# Altium footprint library Buck_Library.PcbLib: 15 footprints
Each footprint in its own frame and in the unit in brackets; x right, y up, seen from the top. Pads: shape width x height; smd on the part's side, far side on the other; paste and mask are expansions set on the pad; w line width, h text height; cw(c..) or ccw(c..) is an arc to the next point about the centre after c.
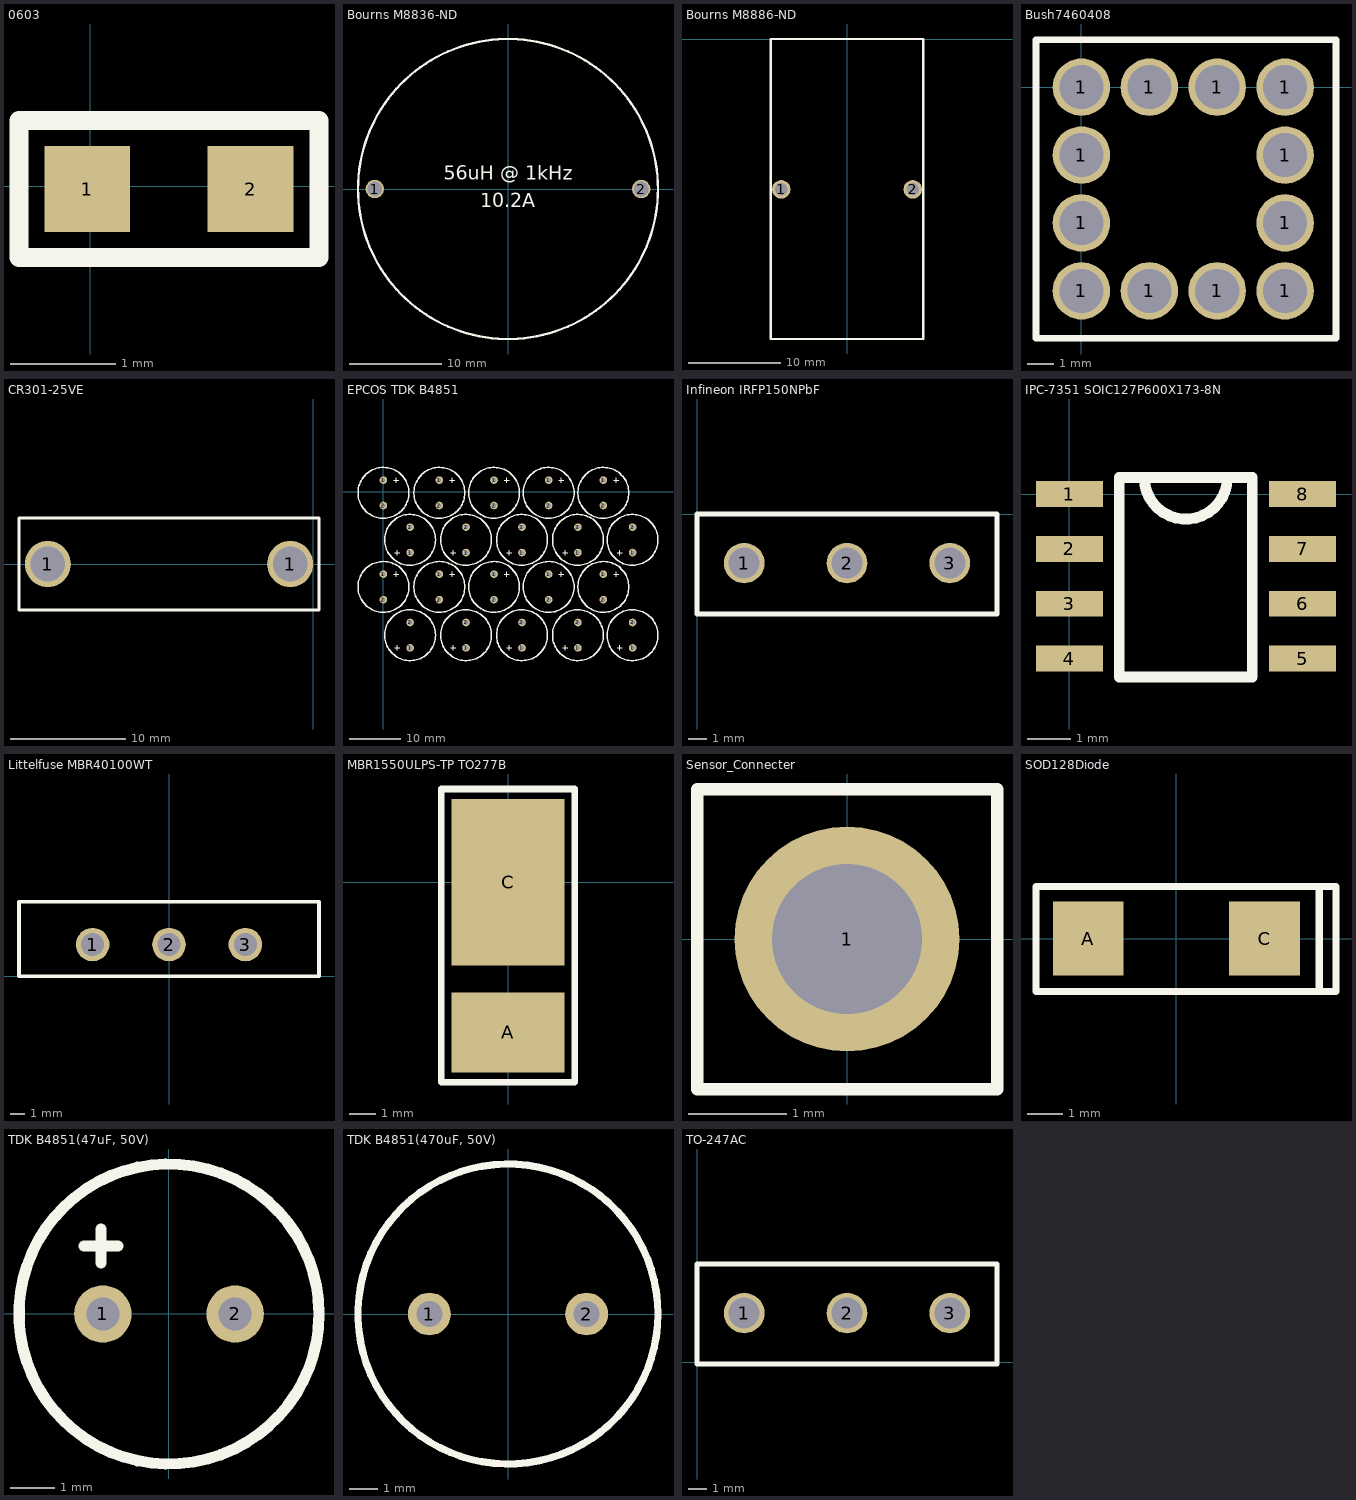
[diagram p0: the footprints below, top view; thin cyan lines are the x and y axes]

## 0603 [mil]
pads (2):
  rect 32x32 smd: 1(-0.98,-0.98) 2(60.02,-0.98)
Top Overlay:
  lines w7: -26.57,-26.57 -26.57,24.61 85.63,24.61 85.63,-26.57 -26.57,-26.57

## Bourns M8836-ND [mm]
pads (2):
  round 2 hole 1.6: 1(-14.478,0) 2(14.478,0)
Top Overlay:
  circle w0.254: c0,0 r16.3
  text "10.2A" at -3,-2 h1.52
  text "56uH @ 1kHz" at -7,1 h1.52

## Bourns M8886-ND [mil]
pads (2):
  round 78.74 hole 53: 1(-280,-640) 2(280,-640)
Top Overlay:
  lines w10: -325,-1275 -325,0 325,0 325,-1277 -323,-1277 -325,-1275

## Bush7460408 [mm] "Power Connecter 12pin"
pads (12):
  round 2.15 hole 1.65: 1(0,-7.62) 1(0,-5.08) 1(0,-2.54) 1(0,0) 1(2.54,-7.62) 1(2.54,0) 1(5.08,-7.62) 1(5.08,0) 1(7.62,-7.62) 1(7.62,-5.08) 1(7.62,-2.54) 1(7.62,0)
Top Overlay:
  lines w0.254: -1.702,-9.398 -1.702,1.778 9.525,1.778 9.525,-9.398 -1.702,-9.398
3D body: height 7, standoff 0, extent -1.829,-9.525 9.652,1.905

## CR301-25VE [mm] "Ohmite Heatsink   CR301-25VE Mouser 588-CR301-25VE"
pads (2):
  round 4 hole 3: 1(-23,0) 1(-2,0)
Top Overlay:
  lines w0.254: -25.5,-4 0.5,-4 0.5,4 -25.25,4 -25.5,4 -25.5,3.25 -25.5,1.5 -25.5,-3.25 -25.5,-4

## EPCOS TDK B4851 [mm] "Aluminum Electrolytic Cap 100V 47uF x 10 Digikey 495-5978-ND"
height 13.5
pads (40):
  round 1.5 hole 0.9: 1(0,-16.25) 1(0,2.25) 1(5.25,-30.75) 1(5.25,-12) 1(11,-16.25) 1(11,2.25) 1(16.25,-30.75) 1(16.25,-12) 1(21.75,-16.25) 1(21.75,2.25) 1(27.25,-30.75) 1(27.25,-12) 1(32.5,-16.25) 1(32.5,2.25) 1(38.25,-30.75) 1(38.25,-12) 1(43.25,-16.25) 1(43.25,2.25) 1(49,-30.75) 1(49,-12) 2(0,-21.25) 2(0,-2.75) 2(5.25,-25.75) 2(5.25,-7) 2(11,-21.25) 2(11,-2.75) 2(16.25,-25.75) 2(16.25,-7) 2(21.75,-21.25) 2(21.75,-2.75) 2(27.25,-25.75) 2(27.25,-7) 2(32.5,-21.25) 2(32.5,-2.75) 2(38.25,-25.75) 2(38.25,-7) 2(43.25,-21.25) 2(43.25,-2.75) 2(49,-25.75) 2(49,-7)
Top Overlay:
  circle w0.254: c0,-0.25 r5
  circle w0.254: c11,-0.25 r5
  circle w0.254: c21.75,-0.25 r5
  circle w0.254: c32.5,-0.25 r5
  circle w0.254: c5.25,-9.5 r5
  circle w0.254: c16.25,-9.5 r5
  circle w0.254: c27.25,-9.5 r5
  circle w0.254: c38.25,-9.5 r5
  circle w0.254: c32.5,-18.75 r5
  circle w0.254: c21.75,-18.75 r5
  circle w0.254: c11,-18.75 r5
  circle w0.254: c0,-18.75 r5
  circle w0.254: c38.25,-28.25 r5
  circle w0.254: c27.25,-28.25 r5
  circle w0.254: c16.25,-28.25 r5
  circle w0.254: c5.25,-28.25 r5
  circle w0.254: c49,-28.25 r5
  circle w0.254: c43.25,-18.75 r5
  circle w0.254: c49,-9.5 r5
  circle w0.254: c43.25,-0.25 r5
  lines w0.1: 2,-16.25 3,-16.25 ; 2,2.25 3,2.25 ; 2.25,-30.75 3.25,-30.75 ; 2.25,-12 3.25,-12 ; 2.5,-16.75 2.5,-15.75 ; 2.5,1.75 2.5,2.75 ; 2.75,-31.25 2.75,-30.25 ; 2.75,-12.5 2.75,-11.5 ; 13,-16.25 14,-16.25 ; 13,2.25 14,2.25 ; 13.25,-30.75 14.25,-30.75 ; 13.25,-12 14.25,-12 ; 13.5,-16.75 13.5,-15.75 ; 13.5,1.75 13.5,2.75 ; 13.75,-31.25 13.75,-30.25 ; 13.75,-12.5 13.75,-11.5 ; 23.75,-16.25 24.75,-16.25 ; 23.75,2.25 24.75,2.25 ; 24.25,-30.75 25.25,-30.75 ; 24.25,-16.75 24.25,-15.75 ; 24.25,-12 25.25,-12 ; 24.25,1.75 24.25,2.75 ; 24.75,-31.25 24.75,-30.25 ; 24.75,-12.5 24.75,-11.5 ; 34.5,-16.25 35.5,-16.25 ; 34.5,2.25 35.5,2.25 ; 35,-16.75 35,-15.75 ; 35,1.75 35,2.75 ; 35.25,-30.75 36.25,-30.75 ; 35.25,-12 36.25,-12 ; 35.75,-31.25 35.75,-30.25 ; 35.75,-12.5 35.75,-11.5 ; 45.25,-16.25 46.25,-16.25 ; 45.25,2.25 46.25,2.25 ; 45.75,-16.75 45.75,-15.75 ; 45.75,1.75 45.75,2.75 ; 46,-30.75 47,-30.75 ; 46,-12 47,-12 ; 46.5,-31.25 46.5,-30.25 ; 46.5,-12.5 46.5,-11.5

## Infineon IRFP150NPbF [mm]
pads (3):
  round 2.15 hole 1.65: 1(2.5,-2.6) 2(7.95,-2.6) 3(13.4,-2.6)
Top Overlay:
  lines w0.254: 15.9,-5.3 15.9,0 7.95,0 0,0 0,-5.3 15.9,-5.3 ; 15.9,-5.3 15.9,-5.3

## IPC-7351 SOIC127P600X173-8N [mm]
pads (8):
  rect 1.55x0.6 smd: 1(0,0) 2(0,-1.27) 3(0,-2.54) 4(0,-3.81) 5(5.4,-3.81) 6(5.4,-2.54) 7(5.4,-1.27) 8(5.4,0)
Top Overlay:
  lines w0.25: 1.155,-4.235 1.155,0.385 ; 4.235,-4.235 4.235,0.385
  lines w0.254: 1.155,-4.235 4.235,-4.235 ; 1.155,0.385 4.235,0.385 ; 1.733,0.385 ccw(c2.695,0.385) 3.658,0.385

## Littelfuse MBR40100WT [mm]
pads (3):
  round 2.4 hole 1.65: 1(-5.461,2.255) 2(0,2.255) 3(5.461,2.255)
Top Overlay:
  lines w0.254: -10.73,0 10.73,0 10.73,5.31 0,5.31 -10.73,5.31 -10.73,0

## MBR1550ULPS-TP TO277B [mil]
pads (2):
  rect 170x120 smd: A(0,-225)
  rect 170x250 smd: C(0,0)
Top Overlay:
  lines w10: -100,-300 -100,140 100,140 100,-300 -100,-300

## Sensor_Connecter [mil]
pads (1):
  round 90 hole 60: 1(0,0)
Top Overlay:
  lines w5: -60,-60 60,-60 60,60 0,60 -60,60 -60,-60

## SOD128Diode [mm]
pads (2):
  rect 2x2.1 smd: A(-2.5,0) C(2.5,0)
Top Overlay:
  lines w0.2: 4.05,-1.425 4.05,1.425 ; -3.975,-1.5 4.525,-1.5 4.525,1.475 -3.975,1.475 -3.975,0.975 -3.975,-1.5

## TDK B4851(47uF, 50V) [mm]
pads (2):
  round 1.3 hole 0.75: 1(-1.5,0) 2(1.5,0)
Top Overlay:
  circle w0.254: c0,0 r3.4
  lines w0.254: -1.925,1.54 -1.155,1.54 ; -1.54,1.155 -1.54,1.925

## TDK B4851(470uF, 50V) [mm]
pads (2):
  round 1.5 hole 0.9: 1(-2.75,0) 2(2.75,0)
Top Overlay:
  circle w0.254: c0,0 r5.25

## TO-247AC [mm]
pads (3):
  round 2.15 hole 1.65: 1(2.5,2.598) 2(7.95,2.598) 3(13.4,2.598)
Top Overlay:
  lines w0.254: 15.9,-0.102 0,-0.102 0,5.198 7.95,5.198 15.9,5.198 15.9,-0.102 ; 15.9,-0.102 15.9,-0.102